# Altium footprint library holes.PCBLIB: 30 footprints (part 2 of 2)
Each footprint in its own frame and in the unit in brackets; x right, y up, seen from the top. Pads: shape width x height; smd on the part's side, far side on the other; paste and mask are expansions set on the pad; w line width, h text height; cw(c..) or ccw(c..) is an arc to the next point about the centre after c.
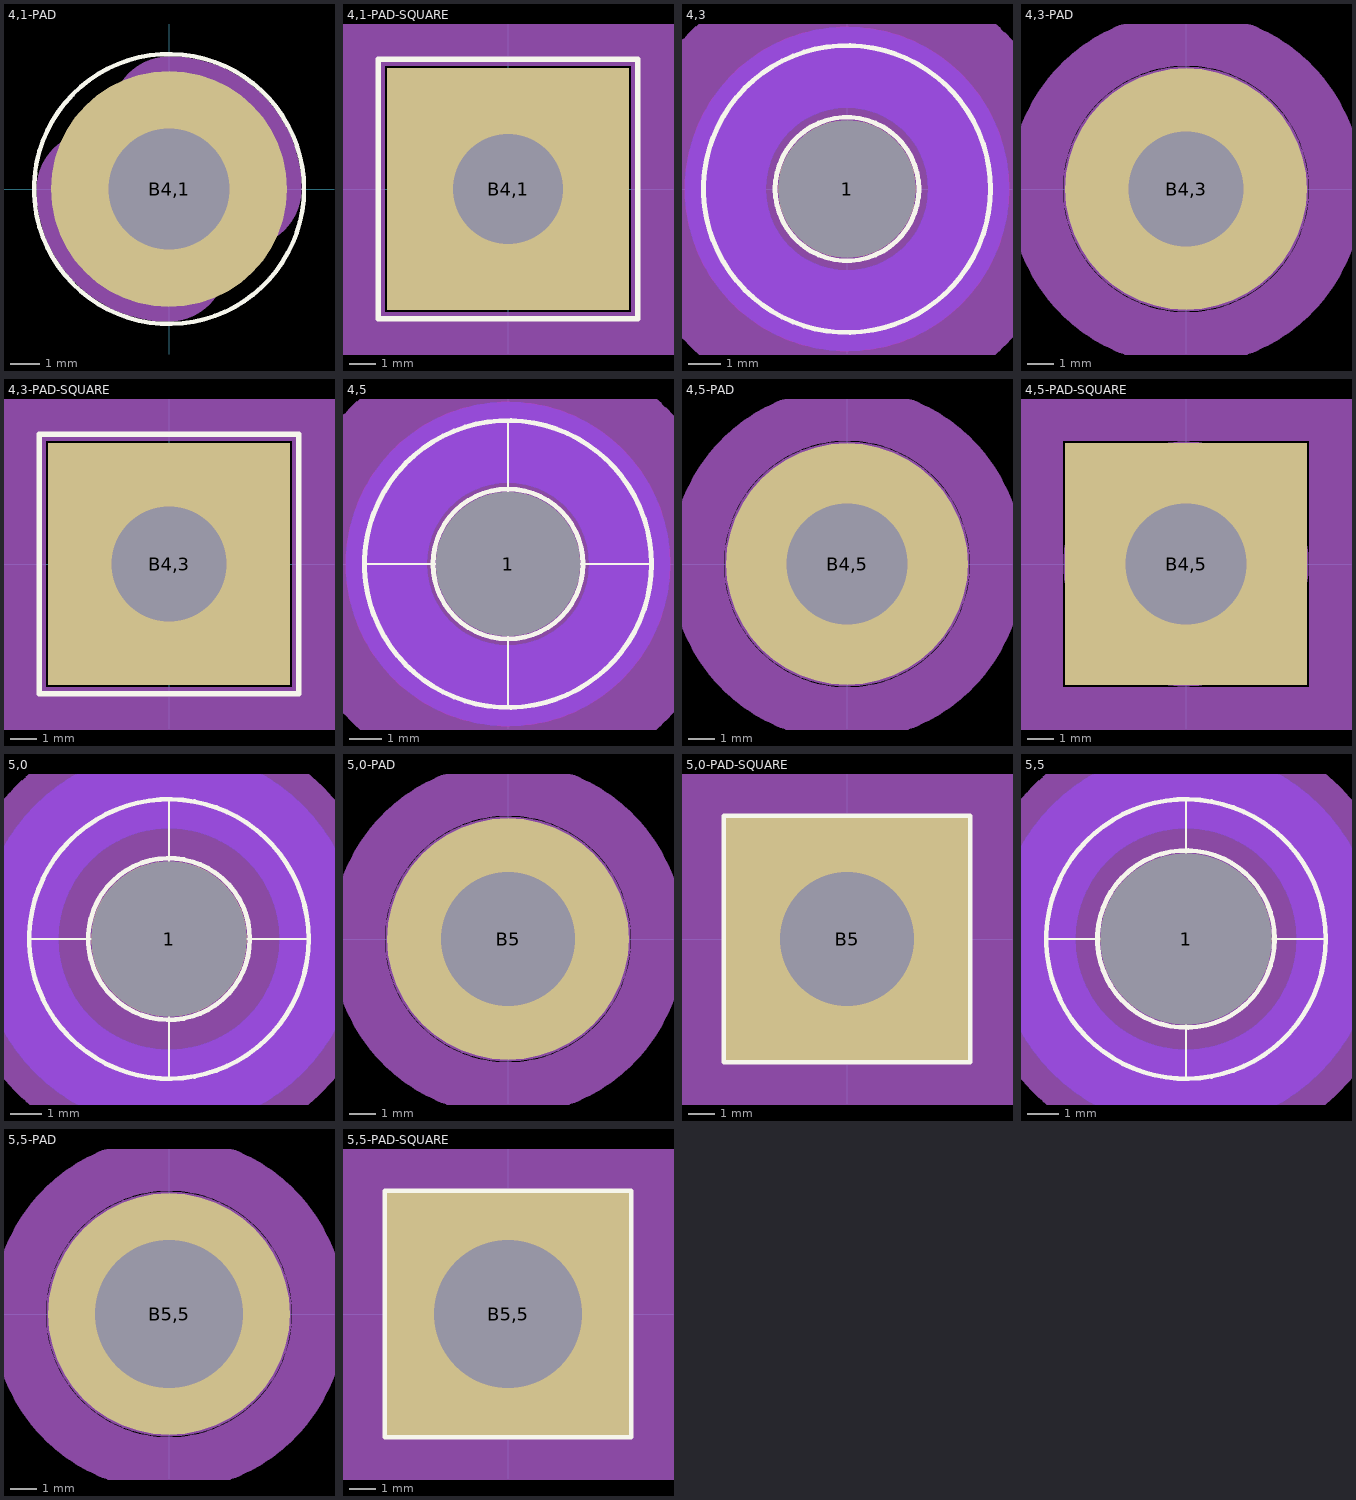
[diagram p1: the footprints below, top view; thin cyan lines are the x and y axes]

## 4,1-PAD [mm]
pads (1):
  round 8 hole 4.1: B4,1(0,0)
Top Overlay:
  circle w0.152: c0,0 r4.572
  circle w0.203: c0,0 r2.15
Mechanical 16:
  circle w0.457: c0,0 r0.762
  lines w3.912: -2.54,0 ccw(c0,0) 0,-2.54 ; 0,2.54 cw(c0,0) 2.54,0
Via Holes:
  circle w2: c0,0 r5.08

## 4,1-PAD-SQUARE [mm]
pads (1):
  rect 9x9 hole 4.1: B4,1(0,0)
Top Overlay:
  circle w0.203: c0,0 r2.15
  lines w0.203: -4.826,-4.826 4.826,-4.826 4.826,4.826 -4.826,4.826 -4.826,-4.826
Mechanical 16:
  circle w0.457: c0,0 r0.762
  lines w3.912: -2.54,0 ccw(c0,0) 0,-2.54 ; 0,2.54 cw(c0,0) 2.54,0
Via Holes:
  lines w2: -5.588,-5.588 5.588,-5.588 5.588,5.588 -5.588,5.588 -5.588,-5.588
Mechanical 27:
  lines w2: -5.588,-5.588 5.588,-5.588 5.588,5.588 -5.588,5.588 -5.588,-5.588
Mechanical 28:
  lines w2: -5.588,-5.588 5.588,-5.588 5.588,5.588 -5.588,5.588 -5.588,-5.588

## 4,3 [mm]
pads (1):
  round 4.3 hole 4.3: 1(0,0)
Top Layer keep-out:
  circle w2.54: c0,0 r3.818
Bottom Layer keep-out:
  circle w2.54: c0,0 r3.81
Top Overlay:
  circle w0.152: c0,0 r4.496
  circle w0.152: c0,0 r2.25
Mechanical 16:
  circle w0.152: c0,0 r0.762
  lines w3.912: -2.54,0 ccw(c0,0) 0,-2.54 ; 0,2.54 cw(c0,0) 2.54,0
Via Holes:
  circle w2.54: c0,0 r3.81
Mechanical 27:
  circle w4.547: c0,0 r4.699
Mechanical 28:
  circle w4.547: c0,0 r4.699

## 4,3-PAD [mm]
pads (1):
  round 9 hole 4.3: B4,3(0,0)
Top Overlay:
  circle w0.152: c0,0 r2.25
Mechanical 16:
  circle w0.152: c0,0 r4.496
  circle w0.457: c0,0 r0.762
  lines w3.912: -2.54,0 ccw(c0,0) 0,-2.54 ; 0,2.54 cw(c0,0) 2.54,0
Via Holes:
  circle w2: c0,0 r5.588
Mechanical 27:
  circle w2: c0,0 r5.588
Mechanical 28:
  circle w2: c0,0 r5.588

## 4,3-PAD-SQUARE [mm]
pads (1):
  rect 9x9 hole 4.3: B4,3(0,0)
Top Overlay:
  circle w0.203: c0,0 r2.25
  lines w0.203: -4.826,-4.826 4.826,-4.826 4.826,4.826 -4.826,4.826 -4.826,-4.826
Top Solder:
  lines w1.27: -2.54,-2.54 -3.175,-2.54 ; -2.54,2.54 -3.175,2.54 ; 2.54,-2.54 3.175,-2.54 3.175,2.54 ; 2.54,2.54 3.175,2.54 ; -3.175,-2.54 -3.175,-3.175 3.81,-3.175 3.81,3.81 -3.81,3.81 -3.81,-3.81 4.445,-3.81 ; -3.175,-2.54 -3.175,2.54 ; -3.175,2.54 -3.175,3.175 3.175,3.175 3.175,2.54 ; 4.445,-3.81 4.445,-4.445 -4.445,-4.445 -4.445,4.445 4.445,4.445 4.445,-3.81
Bottom Solder:
  lines w1.27: -3.81,-3.81 -3.81,3.81 3.81,3.81 3.81,-3.175 -3.175,-3.175 -3.175,-2.54 ; -2.54,-2.54 -3.175,-2.54 ; -2.54,2.54 -3.175,2.54 ; 2.54,-2.54 3.175,-2.54 3.175,2.54 ; 2.54,2.54 3.175,2.54 ; -3.175,-2.54 -3.175,2.54 ; -3.175,2.54 -3.175,3.175 3.175,3.175 3.175,2.54 ; -4.445,-4.445 4.445,-4.445 4.445,4.445 -4.445,4.445 -4.445,-4.445
Mechanical 13:
  text "4,3" at -1.27,-3.81 h1.97
Mechanical 16:
  circle w0.457: c0,0 r0.762
  lines w3.912: -2.54,0 ccw(c0,0) 0,-2.54 ; 0,2.54 cw(c0,0) 2.54,0
Via Holes:
  lines w2: -5.588,-5.588 5.588,-5.588 5.588,5.588 -5.588,5.588 -5.588,-5.588
Mechanical 27:
  lines w2: -5.588,-5.588 5.588,-5.588 5.588,5.588 -5.588,5.588 -5.588,-5.588
Mechanical 28:
  lines w2: -5.588,-5.588 5.588,-5.588 5.588,5.588 -5.588,5.588 -5.588,-5.588

## 4,5 [mm]
pads (1):
  round 4.5 hole 4.5: 1(0,0)
Top Layer keep-out:
  circle w2.54: c0,0 r3.818
Bottom Layer keep-out:
  circle w2.54: c0,0 r3.81
Top Overlay:
  circle w0.152: c0,0 r4.496
  circle w0.152: c0,0 r2.35
  lines w0.051: -4.445,0 -2.159,0 ; 0,-4.445 0,-2.159 ; 0,2.159 0,4.445 ; 2.159,0 4.445,0
Mechanical 13:
  text "4,5" at -1.27,-4.445 h1.97
Mechanical 16:
  circle w0.457: c0,0 r0.762
  lines w3.912: -2.54,0 ccw(c0,0) 0,-2.54 ; 0,2.54 cw(c0,0) 2.54,0
Via Holes:
  circle w2.54: c0,0 r3.81
Mechanical 27:
  circle w4.547: c0,0 r4.699
Mechanical 28:
  circle w4.547: c0,0 r4.699

## 4,5-PAD [mm]
pads (1):
  round 9 hole 4.5: B4,5(0,0)
Top Overlay:
  circle w0.152: c0,0 r2.35
Mechanical 16:
  circle w0.152: c0,0 r4.496
  circle w0.457: c0,0 r0.762
  lines w3.912: -2.54,0 ccw(c0,0) 0,-2.54 ; 0,2.54 cw(c0,0) 2.54,0
Via Holes:
  circle w2: c0,0 r5.588
Mechanical 27:
  circle w2: c0,0 r5.588
Mechanical 28:
  circle w2: c0,0 r5.588

## 4,5-PAD-SQUARE [mm]
pads (1):
  rect 9x9 hole 4.5: B4,5(0,0)
Top Overlay:
  circle w0.152: c0,0 r2.35
Mechanical 16:
  circle w0.152: c0,0 r4.496
  circle w0.457: c0,0 r0.762
  lines w3.912: -2.54,0 ccw(c0,0) 0,-2.54 ; 0,2.54 cw(c0,0) 2.54,0
Via Holes:
  lines w2: -5.588,-5.588 5.588,-5.588 5.588,5.588 -5.588,5.588 -5.588,-5.588
Mechanical 27:
  lines w2: -5.588,-5.588 5.588,-5.588 5.588,5.588 -5.588,5.588 -5.588,-5.588
Mechanical 28:
  lines w2: -5.588,-5.588 5.588,-5.588 5.588,5.588 -5.588,5.588 -5.588,-5.588

## 5,0 [mm]
pads (1):
  round 5 hole 5: 1(0,0)
Top Layer keep-out:
  circle w2.54: c0,0 r4.826
Bottom Layer keep-out:
  circle w2.54: c0,0 r4.826
Top Overlay:
  circle w0.152: c0,0 r4.496
  circle w0.152: c0,0 r2.6
  lines w0.051: -4.445,0 -2.159,0 ; 0,-4.445 0,-2.159 ; 0,2.159 0,4.445 ; 2.159,0 4.445,0
Mechanical 13:
  text "5,0" at -1.27,-4.445 h1.97
Mechanical 16:
  circle w0.457: c0,0 r0.762
  lines w3.912: -2.54,0 ccw(c0,0) 0,-2.54 ; 0,2.54 cw(c0,0) 2.54,0
Via Holes:
  circle w2.54: c0,0 r4.826
Mechanical 27:
  circle w4.547: c0,0 r4.699
Mechanical 28:
  circle w4.547: c0,0 r4.699

## 5,0-PAD [mm]
pads (1):
  round 9 hole 5: B5(0,0)
Top Overlay:
  circle w0.152: c0,0 r2.6
Mechanical 16:
  circle w0.152: c0,0 r4.496
  circle w0.457: c0,0 r0.762
  lines w3.912: -2.54,0 ccw(c0,0) 0,-2.54 ; 0,2.54 cw(c0,0) 2.54,0
Via Holes:
  circle w2: c0,0 r5.588
Mechanical 27:
  circle w2: c0,0 r5.588
Mechanical 28:
  circle w2: c0,0 r5.588

## 5,0-PAD-SQUARE [mm]
pads (1):
  rect 9x9 hole 5: B5(0,0)
Top Overlay:
  circle w0.152: c0,0 r2.6
  lines w0.203: -4.572,-4.572 4.572,-4.572 4.572,4.572 -4.572,4.572 -4.572,-4.572
Mechanical 16:
  circle w0.457: c0,0 r0.762
  lines w3.912: -2.54,0 ccw(c0,0) 0,-2.54 ; 0,2.54 cw(c0,0) 2.54,0
Via Holes:
  lines w2: -5.588,-5.588 5.588,-5.588 5.588,5.588 -5.588,5.588 -5.588,-5.588
Mechanical 27:
  lines w2: -5.588,-5.588 5.588,-5.588 5.588,5.588 -5.588,5.588 -5.588,-5.588
Mechanical 28:
  lines w2: -5.588,-5.588 5.588,-5.588 5.588,5.588 -5.588,5.588 -5.588,-5.588

## 5,5 [mm]
pads (1):
  round 5.5 hole 5.5: 1(0,0)
Top Layer keep-out:
  circle w2.54: c0,0 r4.826
Bottom Layer keep-out:
  circle w2.54: c0,0 r4.826
Top Overlay:
  circle w0.152: c0,0 r4.496
  circle w0.152: c0,0 r2.85
  lines w0.051: -4.445,0 -2.159,0 ; 0,-4.445 0,-2.159 ; 0,2.159 0,4.445 ; 2.159,0 4.445,0
Mechanical 16:
  circle w0.457: c0,0 r0.762
  lines w3.912: -2.54,0 ccw(c0,0) 0,-2.54 ; 0,2.54 cw(c0,0) 2.54,0
Via Holes:
  circle w2.54: c0,0 r4.826
Mechanical 27:
  circle w4.547: c0,0 r4.699
Mechanical 28:
  circle w4.547: c0,0 r4.699

## 5,5-PAD [mm]
pads (1):
  round 9 hole 5.5: B5,5(0,0)
Top Overlay:
  circle w0.152: c0,0 r2.85
Mechanical 16:
  circle w0.152: c0,0 r4.496
  circle w0.457: c0,0 r0.762
  lines w3.912: -2.54,0 ccw(c0,0) 0,-2.54 ; 0,2.54 cw(c0,0) 2.54,0
Via Holes:
  circle w2: c0,0 r5.588
Mechanical 27:
  circle w2: c0,0 r5.588
Mechanical 28:
  circle w2: c0,0 r5.588

## 5,5-PAD-SQUARE [mm]
pads (1):
  rect 9x9 hole 5.5: B5,5(0,0)
Top Overlay:
  lines w0.203: -4.572,-4.572 4.572,-4.572 4.572,4.572 -4.572,4.572 -4.572,-4.572
Mechanical 16:
  circle w0.457: c0,0 r0.762
  lines w3.912: -2.54,0 ccw(c0,0) 0,-2.54 ; 0,2.54 cw(c0,0) 2.54,0
Via Holes:
  lines w2: -5.588,-5.588 5.588,-5.588 5.588,5.588 -5.588,5.588 -5.588,-5.588
Mechanical 27:
  lines w2: -5.588,-5.588 5.588,-5.588 5.588,5.588 -5.588,5.588 -5.588,-5.588
Mechanical 28:
  lines w2: -5.588,-5.588 5.588,-5.588 5.588,5.588 -5.588,5.588 -5.588,-5.588